# Altium footprint library WakamelibGOOD.PCBLIB: 54 footprints (part 4 of 4)
Each footprint in its own frame and in the unit in brackets; x right, y up, seen from the top. Pads: shape width x height; smd on the part's side, far side on the other; paste and mask are expansions set on the pad; w line width, h text height; cw(c..) or ccw(c..) is an arc to the next point about the centre after c.
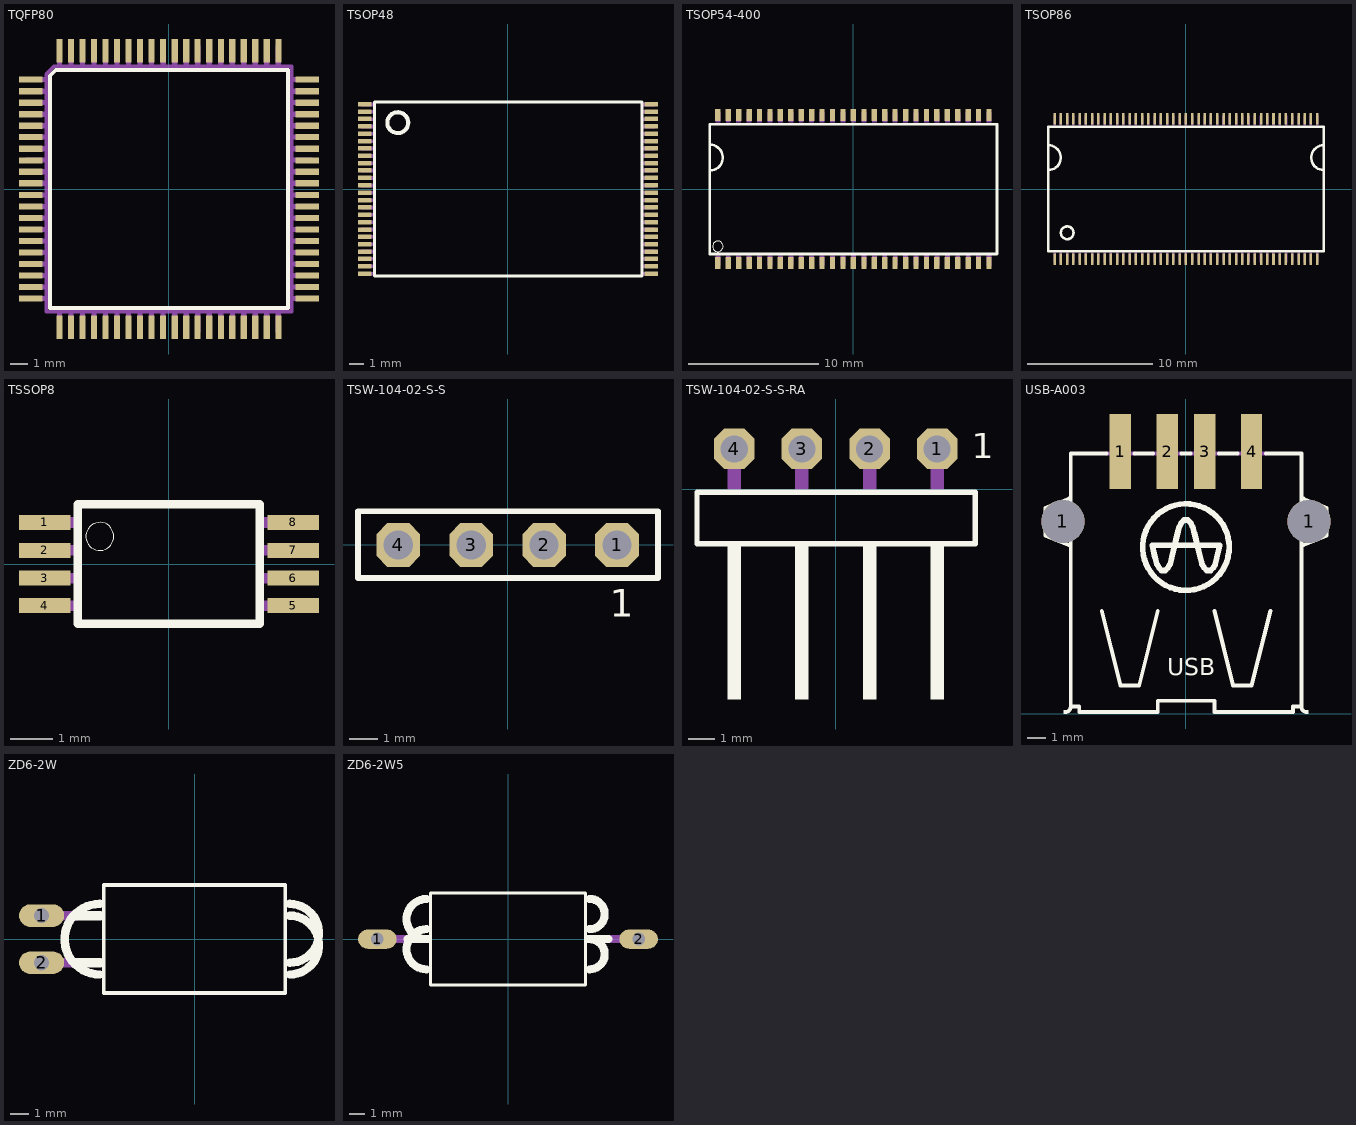
[diagram p3: the footprints below, top view; thin cyan lines are the x and y axes]

## TQFP80 [mil]
pads (80):
  rect 14x52 smd: AM1/GANG_EN(-191.93,-307.09) AM2/MTT_EN(-140.75,-307.09) AM3(-89.57,-307.09) AM4/LED_EN(-38.39,-307.09) AM5(90,-307.09) AM6(141,-307.09) AM7(192,-307.09) ATEST/REG_EN(-191.93,308) GR1/NON_REM0(-166.34,-307.09) GR2_NON_REM1(-115.16,-307.09) GR3/PRT_DIS0(-63.98,-307.09) GR4/PRT_DIS1(-12.8,-307.09) GR5(116,-307.09) GR6(167,-307.09) GR7(218,-307.09) PRTPWR1(244,-307.09) RBIAS(-217.52,308) SCL/SMBCLK/CFG_SEL0(-243.11,-307.09) SDA/SMBDATA(-217.52,-307.09) USBDN0(192,308) USBDN1(141,308) USBDN2(39,308) USBDP0(218,308) USBDP1(116,308) USBDP2(64,308) VDD18(64,-307.09) VDD18.2(-38.39,308) VDD33(13,-307.09) VDD33.3(244,308) VDDA18/PLL(-140.75,308) VDDA33.4(90,308) VDDA33/PLL(-166.34,308) VSS0(-243.11,308) VSS4(39,-307.09) VSS6(167,308) VSS7(13,308) VSS8(-12.8,308) VSS9(-63.98,308) XTAL1/CLKIN(-115.16,308) XTAL2(-89.57,308)
  rect 52x14 smd: CFG_SEL1(-307.09,-243.11) CLKIN_EN(308,167) OCS1_N(308,-243.11) OCS2_N(308,-191.93) OCS3_N(308,-140.75) OCS4_N(308,-89.57) OCS5_N(308,39) OCS6_N(308,90) OCS7_N(308,141) PRTPWR2(308,-217.52) PRTPWR3(308,-166.34) PRTPWR4(308,-115.16) PRTPWR5(308,-63.98) PRTPWR6(308,64) PRTPWR7(308,116) PRTPWR_POL(308,192) RESET_N(308,218) SELF_PWR(-307.09,-217.52) TEST0(-307.09,-166.34) TEST1(-307.09,-191.93) USBDN3(-307.09,192) USBDN4(-307.09,141) USBDN5(-307.09,39) USBDN6(-307.09,-12.8) USBDN7(-307.09,-115.16) USBDP3(-307.09,218) USBDP4(-307.09,116) USBDP5(-307.09,64) USBDP6(-307.09,-38.39) USBDP7(-307.09,-89.57) VBUS_DET(308,244) VDD18.3(308,-12.8) VDD33CR(308,13) VDDA3.1(-307.09,90) VDDA33(-307.09,244) VDDA33.2(-307.09,-63.98) VSS(-307.09,167) VSS1(-307.09,13) VSS3(-307.09,-140.75) VSS5(308,-38.39)
Top Overlay:
  lines w8: -264.17,-264.17 -264.17,252 -251.18,265 265,265 265,-264.17 -264.17,-264.17
Mechanical 2:
  text "USB2507" at -150,-25 h77.5
Mechanical 4:
Mechanical 16:
  region: 319,250 272,250 272,238 319,238
  region: 319,224 272,224 272,212 319,212
  region: 319,198 272,198 272,187 319,187
  region: 319,173 272,173 272,161 319,161
  region: 319,147 272,147 272,135 319,135
  region: 319,122 272,122 272,110 319,110
  region: 319,96 272,96 272,84 319,84
  region: 319,70 272,70 272,59 319,59
  region: 319,45 272,45 272,33 319,33
  region: 319,19 272,19 272,7 319,7
  region: 319,-6.89 272,-6.89 272,-18.7 319,-18.7
  region: 319,-32.48 272,-32.48 272,-44.29 319,-44.29
  region: 319,-58.07 272,-58.07 272,-69.88 319,-69.88
  region: 319,-83.66 272,-83.66 272,-95.47 319,-95.47
  region: 319,-109.25 272,-109.25 272,-121.06 319,-121.06
  region: 319,-134.84 272,-134.84 272,-146.65 319,-146.65
  region: 319,-160.43 272,-160.43 272,-172.24 319,-172.24
  region: 319,-186.02 272,-186.02 272,-197.83 319,-197.83
  region: 319,-211.61 272,-211.61 272,-223.43 319,-223.43
  region: 319,-237.2 272,-237.2 272,-249.02 319,-249.02
  region: 249.41,-318.78 249.41,-271.78 237.59,-271.78 237.59,-318.78
  region: 223.91,-319.28 223.91,-271.28 212.09,-271.28 212.09,-319.28
  region: 198.41,-318.78 198.41,-271.78 186.59,-271.78 186.59,-318.78
  region: 172.41,-318.78 172.41,-271.78 160.59,-271.78 160.59,-318.78
  region: 147.41,-318.78 147.41,-271.78 135.59,-271.78 135.59,-318.78
  region: 121.41,-318.78 121.41,-271.78 109.59,-271.78 109.59,-318.78
  region: 95.91,-319.28 95.91,-271.28 84.09,-271.28 84.09,-319.28
  region: 70.41,-318.78 70.41,-271.78 58.59,-271.78 58.59,-318.78
  region: 44.91,-319.28 44.91,-271.28 33.09,-271.28 33.09,-319.28
  region: 18.99,-319.19 18.99,-271.36 7.18,-271.36 7.18,-319.19
  region: -6.8,-318.98 -6.8,-271.57 -18.61,-271.57 -18.61,-318.98
  region: -32.48,-318.9 -32.48,-271.65 -44.29,-271.65 -44.29,-318.9
  region: -58.07,-318.9 -58.07,-271.65 -69.88,-271.65 -69.88,-318.9
  region: -83.66,-318.9 -83.66,-271.65 -95.47,-271.65 -95.47,-318.9
  region: -109.25,-318.9 -109.25,-271.65 -121.06,-271.65 -121.06,-318.9
  region: -134.84,-318.9 -134.84,-271.65 -146.65,-271.65 -146.65,-318.9
  region: -160.43,-318.9 -160.43,-271.65 -172.24,-271.65 -172.24,-318.9
  region: -186.02,-318.9 -186.02,-271.65 -197.83,-271.65 -197.83,-318.9
  region: -211.61,-318.9 -211.61,-271.65 -223.43,-271.65 -223.43,-318.9
  region: -237.2,-318.9 -237.2,-271.65 -249.02,-271.65 -249.02,-318.9
  rectangle: -318.9,-249.02 -271.65,-237.2
  rectangle: -318.9,-223.43 -271.65,-211.61
  rectangle: -318.9,-197.83 -271.65,-186.02
  rectangle: -318.9,-172.24 -271.65,-160.43
  rectangle: -318.9,-146.65 -271.65,-134.84
  rectangle: -318.9,-121.06 -271.65,-109.25
  rectangle: -318.9,-95.47 -271.65,-83.66
  rectangle: -318.9,-69.88 -271.65,-58.07
  rectangle: -318.9,-44.29 -271.65,-32.48
  rectangle: -318.9,-18.7 -271.65,-6.89
  rectangle: -318.9,7 -271.65,19
  rectangle: -318.9,33 -271.65,45
  rectangle: -318.9,59 -271.65,70
  rectangle: -318.9,84 -271.65,96
  rectangle: -318.9,110 -271.65,122
  rectangle: -318.9,135 -271.65,147
  rectangle: -318.9,161 -271.65,173
  rectangle: -318.9,187 -271.65,198
  rectangle: -318.9,212 -271.65,224
  rectangle: -318.9,238 -271.65,250
  region: -249.11,319.62 -249.11,272.38 -237.11,272.38 -237.11,319.62
  region: -223.52,319.62 -223.52,272.38 -211.52,272.38 -211.52,319.62
  region: -197.93,319.62 -197.93,272.38 -185.93,272.38 -185.93,319.62
  region: -172.34,319.62 -172.34,272.38 -160.34,272.38 -160.34,319.62
  region: -146.75,319.62 -146.75,272.38 -134.75,272.38 -134.75,319.62
  region: -121.16,319.62 -121.16,272.38 -109.16,272.38 -109.16,319.62
  region: -95.57,319.62 -95.57,272.38 -83.57,272.38 -83.57,319.62
  region: -69.98,319.62 -69.98,272.38 -57.98,272.38 -57.98,319.62
  region: -44.39,319.62 -44.39,272.38 -32.39,272.38 -32.39,319.62
  region: -18.71,319.71 -18.71,272.29 -6.71,272.29 -6.71,319.71
  region: 7.09,319.91 7.09,272.09 19.09,272.09 19.09,319.91
  region: 33,320 33,272 45,272 45,320
  region: 58.5,319.5 58.5,272.5 70.5,272.5 70.5,319.5
  region: 84,320 84,272 96,272 96,320
  region: 109.5,319.5 109.5,272.5 121.5,272.5 121.5,319.5
  region: 135.5,319.5 135.5,272.5 147.5,272.5 147.5,319.5
  region: 160.5,319.5 160.5,272.5 172.5,272.5 172.5,319.5
  region: 186.5,319.5 186.5,272.5 198.5,272.5 198.5,319.5
  region: 212,320 212,272 224,272 224,320
  region: 237.5,319.5 237.5,272.5 249.5,272.5 249.5,319.5
  lines w8: -272.05,-272.05 273,-272.05 273,273 -255.51,273 -272.05,256 -272.05,-272.05

## TSOP48 [mil]
pads (48):
  rect 36x12 smd: 1(-383.86,227) 2(-383.86,207) 3(-383.86,188) 4(-383.86,168) 5(-383.86,148) 6(-383.86,128) 7(-383.86,109) 8(-383.86,89) 9(-383.86,69) 10(-383.86,50) 11(-383.86,30) 12(-383.86,10) 13(-383.86,-9.84) 14(-383.86,-29.53) 15(-383.86,-49.21) 16(-383.86,-68.9) 17(-383.86,-88.58) 18(-383.86,-108.27) 19(-383.86,-127.95) 20(-383.86,-147.64) 21(-383.86,-167.32) 22(-383.86,-187.01) 23(-383.86,-206.69) 24(-383.86,-226.38) 25(384,-226.38) 26(384,-206.69) 27(384,-187.01) 28(384,-167.32) 29(384,-147.64) 30(384,-127.95) 31(384,-108.27) 32(384,-88.58) 33(384,-68.9) 34(384,-49.21) 35(384,-29.53) 36(384,-9.84) 37(384,10) 38(384,30) 39(384,50) 40(384,69) 41(384,89) 42(384,109) 43(384,128) 44(384,148) 45(384,168) 46(384,188) 47(384,207) 48(384,227)
Top Overlay:
  circle w11: c-295.28,178 r28
  lines w8: -358.27,-232.28 -358.27,233 359,233 359,-232.28 -358.27,-232.28
Mechanical 16:
  region: 394,232 362,232 362,222 394,222
  region: 394,212 362,212 362,202 394,202
  region: 394,192 362,192 362,183 394,183
  region: 394,173 362,173 362,163 394,163
  region: 394,153 362,153 362,143 394,143
  region: 394,133 362,133 362,124 394,124
  region: 394,114 362,114 362,104 394,104
  region: 394,94 362,94 362,84 394,84
  region: 394,74 362,74 362,64 394,64
  region: 394,55 362,55 362,45 394,45
  region: 394,35 362,35 362,25 394,25
  region: 394,15 362,15 362,5 394,5
  region: 394,-4.92 362,-4.92 362,-14.76 394,-14.76
  region: 394,-24.61 362,-24.61 362,-34.45 394,-34.45
  region: 394,-44.29 362,-44.29 362,-54.13 394,-54.13
  region: 394,-63.98 362,-63.98 362,-73.82 394,-73.82
  region: 394,-83.66 362,-83.66 362,-93.5 394,-93.5
  region: 394,-103.35 362,-103.35 362,-113.19 394,-113.19
  region: 394,-123.03 362,-123.03 362,-132.87 394,-132.87
  region: 394,-142.72 362,-142.72 362,-152.56 394,-152.56
  region: 394,-162.4 362,-162.4 362,-172.24 394,-172.24
  region: 394,-182.09 362,-182.09 362,-191.93 394,-191.93
  region: 394,-201.77 362,-201.77 362,-211.61 394,-211.61
  region: 394,-221.46 362,-221.46 362,-231.3 394,-231.3
  rectangle: -393.7,-231.3 -361.22,-221.46
  rectangle: -393.7,-211.61 -361.22,-201.77
  rectangle: -393.7,-191.93 -361.22,-182.09
  rectangle: -393.7,-172.24 -361.22,-162.4
  rectangle: -393.7,-152.56 -361.22,-142.72
  rectangle: -393.7,-132.87 -361.22,-123.03
  rectangle: -393.7,-113.19 -361.22,-103.35
  rectangle: -393.7,-93.5 -361.22,-83.66
  rectangle: -393.7,-73.82 -361.22,-63.98
  rectangle: -393.7,-54.13 -361.22,-44.29
  rectangle: -393.7,-34.45 -361.22,-24.61
  rectangle: -393.7,-14.76 -361.22,-4.92
  rectangle: -393.7,5 -361.22,15
  rectangle: -393.7,25 -361.22,35
  rectangle: -393.7,45 -361.22,55
  rectangle: -393.7,64 -361.22,74
  rectangle: -393.7,84 -361.22,94
  rectangle: -393.7,104 -361.22,114
  rectangle: -393.7,124 -361.22,133
  rectangle: -393.7,143 -361.22,153
  rectangle: -393.7,163 -361.22,173
  rectangle: -393.7,183 -361.22,192
  rectangle: -393.7,202 -361.22,212
  rectangle: -393.7,222 -361.22,232

## TSOP54-400 [mil]
pads (54):
  rect 16x36 smd: 1(-409.45,-223.62) 2(-377.95,-223.62) 3(-346.46,-223.62) 4(-314.96,-223.62) 5(-283.46,-223.62) 6(-251.97,-223.62) 7(-220.47,-223.62) 8(-188.98,-223.62) 9(-157.48,-223.62) 10(-125.98,-223.62) 11(-94.49,-223.62) 12(-62.99,-223.62) 13(-31.5,-223.62) 14(0,-223.62) 15(32,-223.62) 16(63,-223.62) 17(95,-223.62) 18(126,-223.62) 19(158,-223.62) 20(189,-223.62) 21(221,-223.62) 22(252,-223.62) 23(284,-223.62) 24(315,-223.62) 25(347,-223.62) 26(378,-223.62) 27(410,-223.62) 28(410,224) 29(378,224) 30(347,224) 31(315,224) 32(284,224) 33(252,224) 34(221,224) 35(189,224) 36(158,224) 37(126,224) 38(95,224) 39(63,224) 40(32,224) 41(0,224) 42(-31.5,224) 43(-62.99,224) 44(-94.49,224) 45(-125.98,224) 46(-157.48,224) 47(-188.98,224) 48(-220.47,224) 49(-251.97,224) 50(-283.46,224) 51(-314.96,224) 52(-346.46,224) 53(-377.95,224) 54(-409.45,224)
Top Overlay:
  circle w0: c-409.45,-173.23 r16
  lines w8: -433.4,56 ccw(c-433.4,95) -433.4,134 ; -433.4,56 -433.4,134 ; -433.4,56 -433.4,-196 434,-196 434,196 -433.4,196 -433.4,134
Mechanical 16:
  region: -402.07,-231.5 -402.07,-200 -416.83,-200 -416.83,-231.5
  region: -370.57,-231.5 -370.57,-200 -385.33,-200 -385.33,-231.5
  region: -339.07,-231.5 -339.07,-200 -353.84,-200 -353.84,-231.5
  region: -307.58,-231.5 -307.58,-200 -322.34,-200 -322.34,-231.5
  region: -276.08,-231.5 -276.08,-200 -290.85,-200 -290.85,-231.5
  region: -244.59,-231.5 -244.59,-200 -259.35,-200 -259.35,-231.5
  region: -213.09,-231.5 -213.09,-200 -227.85,-200 -227.85,-231.5
  region: -181.59,-231.5 -181.59,-200 -196.36,-200 -196.36,-231.5
  region: -150.1,-231.5 -150.1,-200 -164.86,-200 -164.86,-231.5
  region: -118.6,-231.5 -118.6,-200 -133.37,-200 -133.37,-231.5
  region: -87.11,-231.5 -87.11,-200 -101.87,-200 -101.87,-231.5
  region: -55.61,-231.5 -55.61,-200 -70.37,-200 -70.37,-231.5
  region: -24.11,-231.5 -24.11,-200 -38.88,-200 -38.88,-231.5
  region: 7.51,-231.62 7.51,-199.87 -7.26,-199.87 -7.26,-231.62
  region: 39.38,-231.75 39.38,-199.75 24.62,-199.75 24.62,-231.75
  region: 70.88,-231.25 70.88,-200.25 56.12,-200.25 56.12,-231.25
  region: 102.38,-231.75 102.38,-199.75 87.62,-199.75 87.62,-231.75
  region: 133.88,-231.25 133.88,-200.25 119.12,-200.25 119.12,-231.25
  region: 165.38,-231.75 165.38,-199.75 150.62,-199.75 150.62,-231.75
  region: 196.88,-231.25 196.88,-200.25 182.12,-200.25 182.12,-231.25
  region: 228.38,-231.75 228.38,-199.75 213.62,-199.75 213.62,-231.75
  region: 259.88,-231.25 259.88,-200.25 245.12,-200.25 245.12,-231.25
  region: 291.38,-231.75 291.38,-199.75 276.62,-199.75 276.62,-231.75
  region: 322.88,-231.25 322.88,-200.25 308.12,-200.25 308.12,-231.25
  region: 354.38,-231.75 354.38,-199.75 339.62,-199.75 339.62,-231.75
  region: 385.88,-231.25 385.88,-200.25 371.12,-200.25 371.12,-231.25
  region: 417.38,-231.75 417.38,-199.75 402.62,-199.75 402.62,-231.75
  region: 402.5,232.5 402.5,200.5 417.5,200.5 417.5,232.5
  region: 386,201 386,232 371,232 371,201
  region: 354.5,200.5 354.5,232.5 339.5,232.5 339.5,200.5
  region: 323,201 323,232 308,232 308,201
  region: 291.5,200.5 291.5,232.5 276.5,232.5 276.5,200.5
  region: 260,201 260,232 245,232 245,201
  region: 228.5,200.5 228.5,232.5 213.5,232.5 213.5,200.5
  region: 197,201 197,232 182,232 182,201
  region: 165.5,200.5 165.5,232.5 150.5,232.5 150.5,200.5
  region: 134,201 134,232 119,232 119,201
  region: 102.5,200.5 102.5,232.5 87.5,232.5 87.5,200.5
  region: 71,201 71,232 56,232 56,201
  region: 39.5,200.5 39.5,232.5 24.5,232.5 24.5,200.5
  region: 7.63,200.63 7.63,232.37 -7.37,232.37 -7.37,200.63
  region: -24,200.75 -24,232.25 -39,232.25 -39,200.75
  region: -55.49,200.75 -55.49,232.25 -70.49,232.25 -70.49,200.75
  region: -86.99,200.75 -86.99,232.25 -101.99,232.25 -101.99,200.75
  region: -118.48,200.75 -118.48,232.25 -133.48,232.25 -133.48,200.75
  region: -149.98,200.75 -149.98,232.25 -164.98,232.25 -164.98,200.75
  region: -181.48,200.75 -181.48,232.25 -196.48,232.25 -196.48,200.75
  region: -212.97,200.75 -212.97,232.25 -227.97,232.25 -227.97,200.75
  region: -244.47,200.75 -244.47,232.25 -259.47,232.25 -259.47,200.75
  region: -275.96,200.75 -275.96,232.25 -290.96,232.25 -290.96,200.75
  region: -307.46,200.75 -307.46,232.25 -322.46,232.25 -322.46,200.75
  region: -338.96,200.75 -338.96,232.25 -353.96,232.25 -353.96,200.75
  region: -370.45,200.75 -370.45,232.25 -385.45,232.25 -385.45,200.75
  region: -401.95,200.75 -401.95,232.25 -416.95,232.25 -416.95,200.75

## TSOP86 [mil]
pads (86):
  rect 8x36 smd: 1(-413.39,-221.65) 2(-393.7,-221.65) 3(-374.02,-221.65) 4(-354.33,-221.65) 5(-334.65,-221.65) 6(-314.96,-221.65) 7(-295.28,-221.65) 8(-275.59,-221.65) 9(-255.91,-221.65) 10(-236.22,-221.65) 11(-216.54,-221.65) 12(-196.85,-221.65) 13(-177.17,-221.65) 14(-157.48,-221.65) 15(-137.8,-221.65) 16(-118.11,-221.65) 17(-98.43,-221.65) 18(-78.74,-221.65) 19(-59.06,-221.65) 20(-39.37,-221.65) 21(-19.68,-221.65) 22(0,-221.65) 23(20,-221.65) 24(40,-221.65) 25(60,-221.65) 26(79,-221.65) 27(99,-221.65) 28(119,-221.65) 29(138,-221.65) 30(158,-221.65) 31(178,-221.65) 32(197,-221.65) 33(217,-221.65) 34(237,-221.65) 35(256,-221.65) 36(276,-221.65) 37(296,-221.65) 38(315,-221.65) 39(335,-221.65) 40(355,-221.65) 41(375,-221.65) 42(394,-221.65) 43(414,-221.65) 44(414,222) 45(394,222) 46(375,222) 47(355,222) 48(335,222) 49(315,222) 50(296,222) 51(276,222) 52(256,222) 53(237,222) 54(217,222) 55(197,222) 56(178,222) 57(158,222) 58(138,222) 59(119,222) 60(99,222) 61(79,222) 62(60,222) 63(40,222) 64(20,222) 65(0,222) 66(-19.68,222) 67(-39.37,222) 68(-59.06,222) 69(-78.74,222) 70(-98.43,222) 71(-118.11,222) 72(-137.8,222) 73(-157.48,222) 74(-177.17,222) 75(-196.85,222) 76(-216.54,222) 77(-236.22,222) 78(-255.91,222) 79(-275.59,222) 80(-295.28,222) 81(-314.96,222) 82(-334.65,222) 83(-354.33,222) 84(-374.02,222) 85(-393.7,222) 86(-413.39,222)
Top Overlay:
  circle w8: c-374.02,-137.8 r20
  lines w8: -433.4,60 ccw(c-433.4,99) -433.4,138 ; 434,60 cw(c434,99) 434,138 ; -433.4,-196 -433.4,196 434,196 434,-196 -433.4,-196
Mechanical 16:
  region: -409.45,-231.5 -409.45,-200 -417.32,-200 -417.32,-231.5
  region: -389.76,-231.5 -389.76,-200 -397.64,-200 -397.64,-231.5
  region: -370.08,-231.5 -370.08,-200 -377.95,-200 -377.95,-231.5
  region: -350.39,-231.5 -350.39,-200 -358.27,-200 -358.27,-231.5
  region: -330.71,-231.5 -330.71,-200 -338.58,-200 -338.58,-231.5
  region: -311.02,-231.5 -311.02,-200 -318.9,-200 -318.9,-231.5
  region: -291.34,-231.5 -291.34,-200 -299.21,-200 -299.21,-231.5
  region: -271.65,-231.5 -271.65,-200 -279.53,-200 -279.53,-231.5
  region: -251.97,-231.5 -251.97,-200 -259.84,-200 -259.84,-231.5
  region: -232.28,-231.5 -232.28,-200 -240.16,-200 -240.16,-231.5
  region: -212.6,-231.5 -212.6,-200 -220.47,-200 -220.47,-231.5
  region: -192.91,-231.5 -192.91,-200 -200.79,-200 -200.79,-231.5
  region: -173.23,-231.5 -173.23,-200 -181.1,-200 -181.1,-231.5
  region: -153.54,-231.5 -153.54,-200 -161.42,-200 -161.42,-231.5
  region: -133.86,-231.5 -133.86,-200 -141.73,-200 -141.73,-231.5
  region: -114.17,-231.5 -114.17,-200 -122.05,-200 -122.05,-231.5
  region: -94.49,-231.5 -94.49,-200 -102.36,-200 -102.36,-231.5
  region: -74.8,-231.5 -74.8,-200 -82.68,-200 -82.68,-231.5
  region: -55.12,-231.5 -55.12,-200 -62.99,-200 -62.99,-231.5
  region: -35.43,-231.5 -35.43,-200 -43.31,-200 -43.31,-231.5
  region: -15.75,-231.5 -15.75,-200 -23.62,-200 -23.62,-231.5
  region: 4.06,-231.62 4.06,-199.87 -3.81,-199.87 -3.81,-231.62
  region: 23.94,-231.75 23.94,-199.75 16.06,-199.75 16.06,-231.75
  region: 43.94,-231.75 43.94,-199.75 36.06,-199.75 36.06,-231.75
  region: 63.44,-231.25 63.44,-200.25 55.56,-200.25 55.56,-231.25
  region: 82.94,-231.75 82.94,-199.75 75.06,-199.75 75.06,-231.75
  region: 102.94,-231.75 102.94,-199.75 95.06,-199.75 95.06,-231.75
  region: 122.44,-231.25 122.44,-200.25 114.56,-200.25 114.56,-231.25
  region: 142.44,-231.25 142.44,-200.25 134.56,-200.25 134.56,-231.25
  region: 161.94,-231.75 161.94,-199.75 154.06,-199.75 154.06,-231.75
  region: 181.44,-231.25 181.44,-200.25 173.56,-200.25 173.56,-231.25
  region: 201.44,-231.25 201.44,-200.25 193.56,-200.25 193.56,-231.25
  region: 220.94,-231.75 220.94,-199.75 213.06,-199.75 213.06,-231.75
  region: 240.44,-231.25 240.44,-200.25 232.56,-200.25 232.56,-231.25
  region: 260.44,-231.25 260.44,-200.25 252.56,-200.25 252.56,-231.25
  region: 279.94,-231.75 279.94,-199.75 272.06,-199.75 272.06,-231.75
  region: 299.94,-231.75 299.94,-199.75 292.06,-199.75 292.06,-231.75
  region: 319.44,-231.25 319.44,-200.25 311.56,-200.25 311.56,-231.25
  region: 338.94,-231.75 338.94,-199.75 331.06,-199.75 331.06,-231.75
  region: 358.94,-231.75 358.94,-199.75 351.06,-199.75 351.06,-231.75
  region: 378.44,-231.25 378.44,-200.25 370.56,-200.25 370.56,-231.25
  region: 397.94,-231.75 397.94,-199.75 390.06,-199.75 390.06,-231.75
  region: 417.94,-231.75 417.94,-199.75 410.06,-199.75 410.06,-231.75
  region: 418,200 418,232 410,232 410,200
  region: 398,200 398,232 390,232 390,200
  region: 378.5,200.5 378.5,231.5 370.5,231.5 370.5,200.5
  region: 359,200 359,232 351,232 351,200
  region: 339,200 339,232 331,232 331,200
  region: 319.5,200.5 319.5,231.5 311.5,231.5 311.5,200.5
  region: 300,200 300,232 292,232 292,200
  region: 280,200 280,232 272,232 272,200
  region: 260.5,200.5 260.5,231.5 252.5,231.5 252.5,200.5
  region: 240.5,200.5 240.5,231.5 232.5,231.5 232.5,200.5
  region: 221,200 221,232 213,232 213,200
  region: 201.5,200.5 201.5,231.5 193.5,231.5 193.5,200.5
  region: 181.5,200.5 181.5,231.5 173.5,231.5 173.5,200.5
  region: 162,200 162,232 154,232 154,200
  region: 142.5,200.5 142.5,231.5 134.5,231.5 134.5,200.5
  region: 122.5,200.5 122.5,231.5 114.5,231.5 114.5,200.5
  region: 103,200 103,232 95,232 95,200
  region: 83,200 83,232 75,232 75,200
  region: 63.5,200.5 63.5,231.5 55.5,231.5 55.5,200.5
  region: 44,200 44,232 36,232 36,200
  region: 24,200 24,232 16,232 16,200
  region: 4.13,200.13 4.13,231.87 -3.87,231.87 -3.87,200.13
  region: -15.69,200.25 -15.69,231.75 -23.69,231.75 -23.69,200.25
  region: -35.37,200.25 -35.37,231.75 -43.37,231.75 -43.37,200.25
  region: -55.06,200.25 -55.06,231.75 -63.06,231.75 -63.06,200.25
  region: -74.74,200.25 -74.74,231.75 -82.74,231.75 -82.74,200.25
  region: -94.43,200.25 -94.43,231.75 -102.43,231.75 -102.43,200.25
  region: -114.11,200.25 -114.11,231.75 -122.11,231.75 -122.11,200.25
  region: -133.8,200.25 -133.8,231.75 -141.8,231.75 -141.8,200.25
  region: -153.48,200.25 -153.48,231.75 -161.48,231.75 -161.48,200.25
  region: -173.17,200.25 -173.17,231.75 -181.17,231.75 -181.17,200.25
  region: -192.85,200.25 -192.85,231.75 -200.85,231.75 -200.85,200.25
  region: -212.54,200.25 -212.54,231.75 -220.54,231.75 -220.54,200.25
  region: -232.22,200.25 -232.22,231.75 -240.22,231.75 -240.22,200.25
  region: -251.91,200.25 -251.91,231.75 -259.91,231.75 -259.91,200.25
  region: -271.59,200.25 -271.59,231.75 -279.59,231.75 -279.59,200.25
  region: -291.28,200.25 -291.28,231.75 -299.28,231.75 -299.28,200.25
  region: -310.96,200.25 -310.96,231.75 -318.96,231.75 -318.96,200.25
  region: -330.65,200.25 -330.65,231.75 -338.65,231.75 -338.65,200.25
  region: -350.33,200.25 -350.33,231.75 -358.33,231.75 -358.33,200.25
  region: -370.02,200.25 -370.02,231.75 -378.02,231.75 -378.02,200.25
  region: -389.7,200.25 -389.7,231.75 -397.7,231.75 -397.7,200.25
  region: -409.39,200.25 -409.39,231.75 -417.39,231.75 -417.39,200.25

## TSSOP8 [mil]
pads (8):
  rect 48x14 smd: 1(-115.16,39) 2(-115.16,13) 3(-115.16,-12.8) 4(-115.16,-38.39) 5(116,-38.39) 6(116,-12.8) 7(116,13) 8(116,39)
Top Overlay:
  circle w0: c-63.98,26 r13
  lines w8: -84.65,-55.12 85,-55.12 85,56 -84.65,56 -84.65,-55.12
Mechanical 16:
  rectangle: -125.98,34 -86.61,44
  rectangle: -125.98,8 -86.61,18
  rectangle: -125.98,-17.72 -86.61,-7.87
  rectangle: -125.98,-43.31 -86.61,-33.46
  rectangle: 87,-43.31 126,-33.46
  rectangle: 87,-17.72 126,-7.87
  rectangle: 87,8 126,18
  rectangle: 87,34 126,44

## TSW-104-02-S-S [mil]
pads (4):
  oct 60x60 hole 40: 1(150,0) 2(50,0) 3(-50,0) 4(-150,0)
Top Overlay:
  lines w8: -205.08,-45.47 206,-45.47 206,46 -205.08,46 -205.08,-45.47
  text "1" at 140,-98.35 h37.4
Mechanical 16:
  rectangle: -163.78,-13.78 -136.22,14
  rectangle: -63.78,-13.78 -36.22,14
  rectangle: 37,-13.78 64,14
  rectangle: 137,-13.78 164,14

## TSW-104-02-S-S-RA [mil]
pads (4):
  oct 60x60 hole 40: 1(150,60) 2(50,60) 3(-50,60) 4(-150,60)
Top Overlay:
  rectangle: 140,-310.63 160,-80.31
  rectangle: 40,-310.63 60,-80.31
  rectangle: -60,-310.63 -40,-80.31
  rectangle: -160,-310.63 -140,-80.31
  lines w8: -205.08,-80.55 -205.08,-4.17 206,-4.17 206,-80.55 -205.08,-80.55
  text "1" at 201,46 h37.4
Mechanical 16:
  rectangle: 140,0 160,70
  rectangle: 40,0 60,70
  rectangle: -60,0 -40,70
  rectangle: -160,0 -140,70

## USB-A003 [mil]
pads (6):
  round 91 hole 91: 1(-258.66,405) 1(259,405)
  rect 45x158 smd: 1(-137.8,552) 2(-39.37,552) 3(40,552) 4(138,552)
Top Overlay:
  circle w12: c0,351 r91
  rectangle: 254,0 258,8
  rectangle: -257.87,0 -253.94,8
  lines w8: -253.94,4 ccw(c-254.03,15.91) -242.13,16 ; -246.06,355 -295.28,375 -295.28,434 -246.06,453 ; -177.17,217 -137.8,60 -98.43,60 -59.06,217 ; -167.32,548 -242.13,548 -242.13,16 ; -108.27,548 -68.9,548 ; -9.84,548 10,548 ; 60,217 99,60 138,60 178,217 ; 69,548 109,548 ; 168,548 243,548 243,16 ; 247,355 296,375 296,434 247,453 ; 254,4 cw(c254.5,15.5) 243,16 ; -242.13,16 -224.41,16 -224.41,4 -59.06,4 -59.06,28 60,28 60,4 225,4 225,16 243,16
  lines w12: -70.87,355 -64.96,329 -61.02,315 -57.09,308 -51.18,302 -43.31,302 -37.4,308 -33.46,315 -29.53,329 -17.72,380 -13.78,394 -9.84,402 -3.94,408 4,408 10,402 14,394 18,380 30,329 34,315 38,308 44,302 52,302 58,308 62,315 65,329 71,355 ; -68.9,355 69,355
  text "USB" at -39.37,69 h62
Mechanical 16:
  lines w8: -167.32,548 -108.27,548 ; -68.9,548 -9.84,548 ; 10,548 69,548 ; 109,548 168,548

## ZD6-2W [mil]
pads (2):
  oval 96x48 hole 32: 1(-325,50) 2(-325,-50)
Top Overlay:
  lines w8: -192.91,-114.17 -192.91,115 193,115 193,-114.17 -192.91,-114.17
  lines w18: -201.13,-75 cw(c-201.13,0) -201.13,75 ; 202,-75 ccw(c202,-12.5) 202,50 ; 202,-50 ccw(c202,12.5) 202,75
  lines w20: -250,-50 -200,-50 ; -250,50 -200,50
Mechanical 16:
  lines w20: -325,-50 -250,-50 ; -325,50 -250,50

## ZD6-2W5 [mil]
pads (2):
  oval 96x48 hole 32: 1(-325,0) 2(325,0)
Top Overlay:
  lines w8: -192.91,-114.17 -192.91,115 193,115 193,-114.17 -192.91,-114.17
  lines w20: -250,0 -202.13,0 ; -202.13,-75 cw(c-202.13,-25) -202.13,25 ; -202.13,100 ccw(c-202.13,50) -202.13,0 ; -200,0 -202.13,0 ; 200,0 203,0 ; 203,-75 ccw(c203,-37.5) 203,0 ; 203,25 ccw(c203,62.5) 203,100 ; 250,0 203,0
Mechanical 16:
  lines w20: -325,0 -250,0 ; 250,0 325,0